# Altium footprint library adafruit.PCBLIB: 643 footprints (part 35 of 41)
Each footprint in its own frame and in the unit in brackets; x right, y up, seen from the top. Pads: shape width x height; smd on the part's side, far side on the other; paste and mask are expansions set on the pad; w line width, h text height; cw(c..) or ccw(c..) is an arc to the next point about the centre after c.
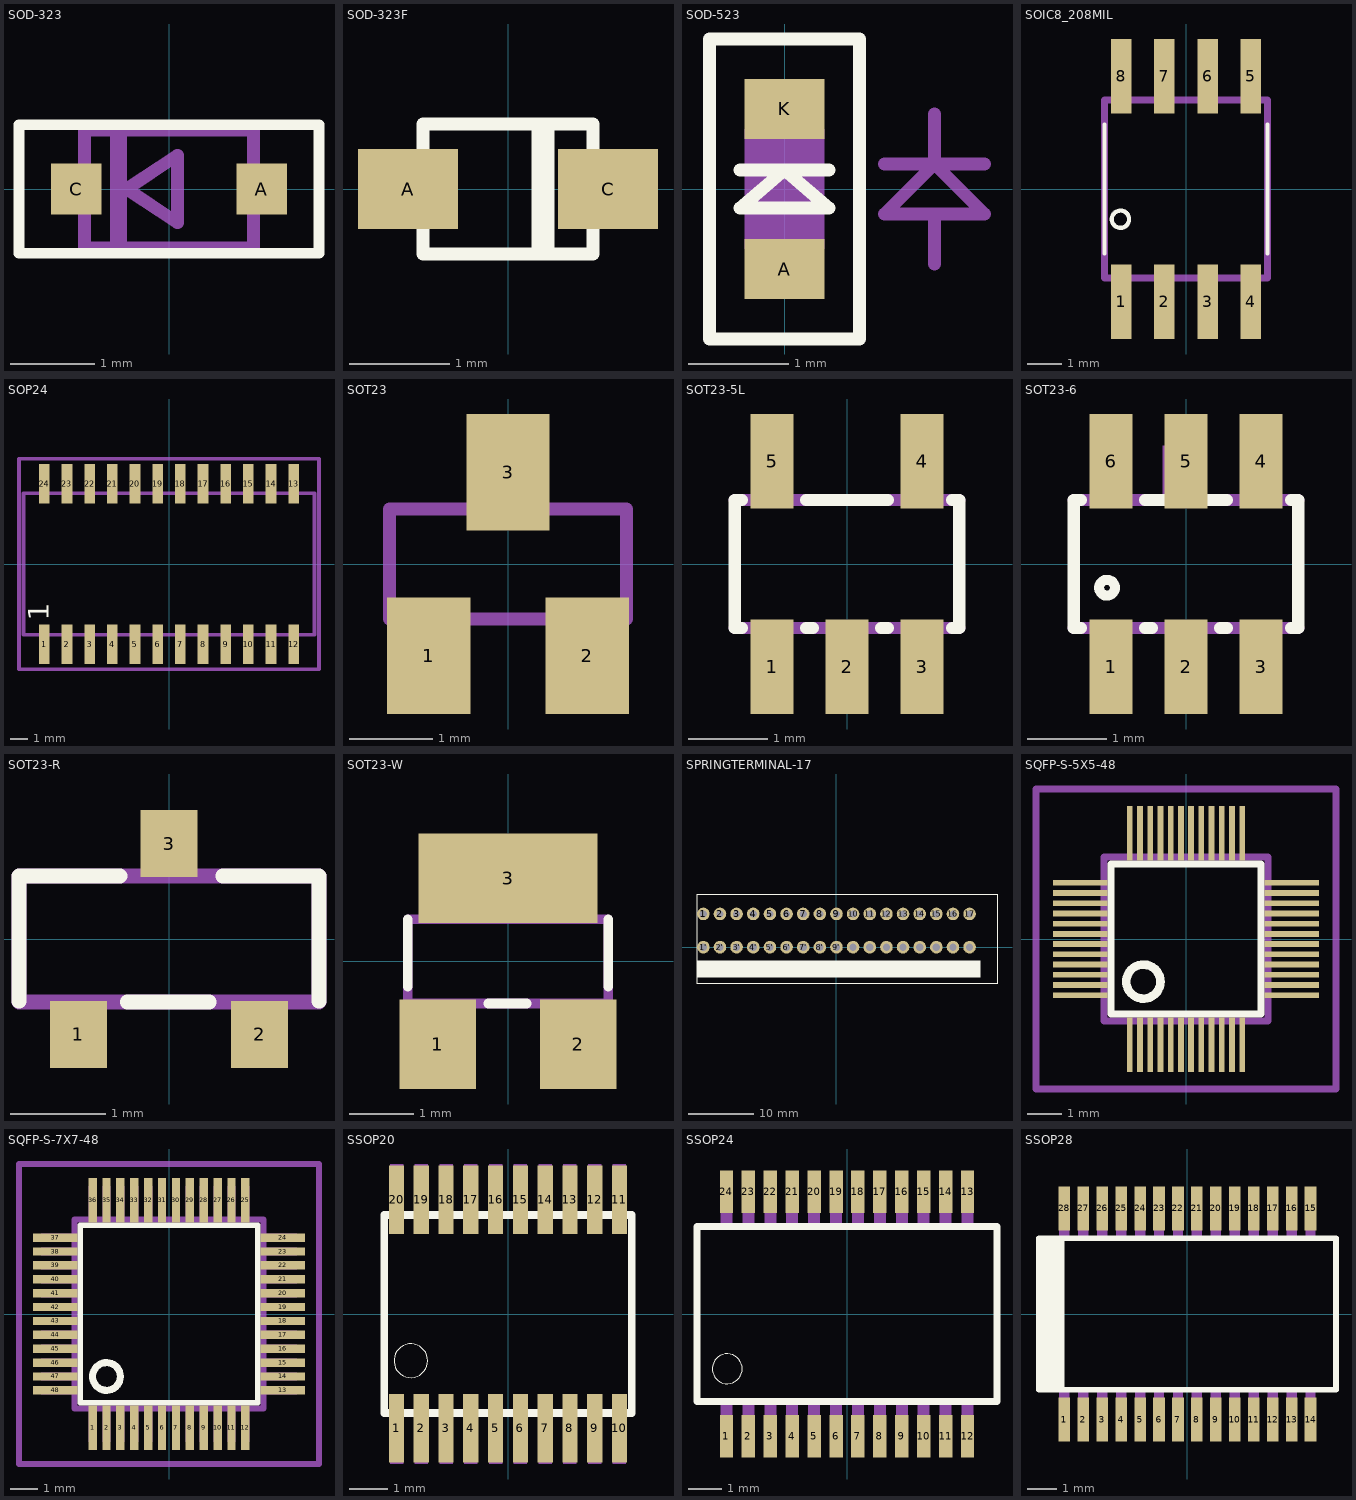
[diagram p34: the footprints below, top view; thin cyan lines are the x and y axes]

## SOD-323 [mil]
pads (2):
  rect 23.62x23.62 smd: A(43.31,0) C(-43.31,0)
Top Overlay:
  lines w5: -70,-30 70,-30 70,30 -70,30 -70,-30
Mechanical 16:
  rectangle: -27.56,-27.56 -19.69,27.56
  lines w6: -39.37,-27.56 39.37,-27.56 39.37,27.56 -39.37,27.56 -39.37,-27.56 ; -19.69,0 3.94,15.75 3.94,-15.75 -19.69,0
  text "41" at 21.93,11.48 h37.2

## SOD-323F [mm]
pads (2):
  rect 1x0.8 smd: A(-1,0) C(1,0)
Top Overlay:
  lines w0.127: 0.3,0.6 0.3,-0.6 0.4,-0.6 0.4,0.6 ; -0.85,-0.65 0.85,-0.65 0.85,0.65 -0.85,0.65 -0.85,-0.65
Mechanical 16:
  lines w0.127: -0.9,-0.2 -1.2,-0.2 -1.2,0.2 -0.9,0.2 ; 0.9,-0.2 1.2,-0.2 1.2,0.2 0.9,0.2

## SOD-523 [mil]
pads (2):
  rect 31.5x23.62 smd: A(0,-31.5) K(0,31.5)
Top Overlay:
  lines w5: -17.5,7.5 17.5,7.5 ; -29.53,-59.06 29.53,-59.06 29.53,59.06 -29.53,59.06 -29.53,-59.06 ; -17.5,-7.5 17.5,-7.5 0,7.5 -17.5,-7.5
Mechanical 16:
  rectangle: -15.75,-23.62 15.75,23.62
  rectangle: -5.91,-31.5 5.91,-23.62
  rectangle: -5.91,23.62 5.91,31.5
  lines w5: 39.37,9.84 59.06,9.84 ; 59.06,-29.53 59.06,-9.84 ; 59.06,29.53 59.06,9.84 ; 78.74,9.84 59.06,9.84 ; 59.06,-9.84 39.37,-9.84 59.06,9.84 ; 59.06,-9.84 78.74,-9.84 59.06,9.84

## SOIC8_208MIL [mil]
pads (8):
  rect 23.62x86.61 smd: 1(-75,-130.51) 2(-25,-130.51) 3(25,-130.51) 4(75,-130.51) 5(75,130.51) 6(25,130.51) 7(-25,130.51) 8(-75,130.51)
Top Overlay:
  circle w5: c-76,-35 r10
  lines w5: -94.49,-74.8 -94.49,74.8 ; 94.49,-74.8 94.49,74.8
Mechanical 16:
  rectangle: -84.65,-150.2 -65.35,-106.89
  rectangle: -34.65,-150.2 -15.35,-106.89
  rectangle: 15.35,-150.2 34.65,-106.89
  rectangle: 65.35,-150.2 84.65,-106.89
  rectangle: 65.35,106.89 84.65,150.2
  rectangle: 15.35,106.89 34.65,150.2
  rectangle: -34.65,106.89 -15.35,150.2
  rectangle: -84.65,106.89 -65.35,150.2
  lines w8: -94.49,-102.95 94.49,-102.95 94.49,102.95 -94.49,102.95 -94.49,-102.95

## SOP24 [mil]
pads (24):
  rect 23.62x86.61 smd: 1(-275,-177.17) 2(-225,-177.17) 3(-175,-177.17) 4(-125,-177.17) 5(-75,-177.17) 6(-25,-177.17) 7(25,-177.17) 8(75,-177.17) 9(125,-177.17) 10(175,-177.17) 11(225,-177.17) 12(275,-177.17) 13(275,177.17) 14(225,177.17) 15(175,177.17) 16(125,177.17) 17(75,177.17) 18(25,177.17) 19(-25,177.17) 20(-75,177.17) 21(-125,177.17) 22(-175,177.17) 23(-225,177.17) 24(-275,177.17)
Top Overlay:
  text "1" at -250,-125 h77.5
Mechanical 16:
  rectangle: -284.84,-212.2 -265.16,-159.84
  rectangle: -234.84,-212.2 -215.16,-159.84
  rectangle: -184.84,-212.2 -165.16,-159.84
  rectangle: -134.84,-212.2 -115.16,-159.84
  rectangle: -84.84,-212.2 -65.16,-159.84
  rectangle: -34.84,-212.2 -15.16,-159.84
  rectangle: 15.16,-212.2 34.84,-159.84
  rectangle: 65.16,-212.2 84.84,-159.84
  rectangle: 115.16,-212.2 134.84,-159.84
  rectangle: 165.16,-212.2 184.84,-159.84
  rectangle: 215.16,-212.2 234.84,-159.84
  rectangle: 265.16,-212.2 284.84,-159.84
  rectangle: 265.16,159.84 284.84,212.2
  rectangle: 215.16,159.84 234.84,212.2
  rectangle: 165.16,159.84 184.84,212.2
  rectangle: 115.16,159.84 134.84,212.2
  rectangle: 65.16,159.84 84.84,212.2
  rectangle: 15.16,159.84 34.84,212.2
  rectangle: -34.84,159.84 -15.16,212.2
  rectangle: -84.84,159.84 -65.16,212.2
  rectangle: -134.84,159.84 -115.16,212.2
  rectangle: -184.84,159.84 -165.16,212.2
  rectangle: -234.84,159.84 -215.16,212.2
  rectangle: -284.84,159.84 -265.16,212.2
  lines w8: -320.67,-155.91 320.67,-155.91 320.67,155.91 -320.67,155.91 -320.67,-155.91
Mechanical 27:
  lines w7.87: -330.71,-232.28 -330.71,232.28 330.71,232.28 330.71,-232.28 -330.71,-232.28

## SOT23 [mm]
pads (3):
  rect 1x1.4 smd: 1(-0.95,-1.1) 2(0.95,-1.1) 3(0,1.1)
Mechanical 16:
  rectangle: -0.229,0.711 0.229,1.295
  rectangle: 0.711,-1.295 1.168,-0.711
  rectangle: -1.168,-1.295 -0.711,-0.711
  lines w0.152: -1.422,-0.66 1.422,-0.66 1.422,0.66 -1.422,0.66 -1.422,-0.66

## SOT23-5L [mil]
pads (5):
  rect 21.65x47.24 smd: 1(-37.4,-51.18) 2(0,-51.18) 3(37.4,-51.18) 4(37.4,51.18) 5(-37.4,51.18)
Top Overlay:
  lines w6: -52.28,-31.89 -55.98,-31.89 -55.98,31.89 -52.28,31.89 ; -20.55,-31.89 -16.85,-31.89 ; -20.55,31.89 20.55,31.89 ; 16.85,-31.89 20.55,-31.89 ; 52.28,-31.89 55.98,-31.89 55.98,31.89 52.28,31.89
Mechanical 16:
  rectangle: -47.24,-59.06 -27.56,-33.46
  rectangle: -9.84,-59.06 9.84,-33.46
  rectangle: 27.56,-59.06 47.24,-33.46
  rectangle: 27.56,33.46 47.24,59.06
  rectangle: -47.24,33.46 -27.56,59.06
  lines w6: -55.98,-31.89 55.98,-31.89 ; -55.98,31.89 55.98,31.89

## SOT23-6 [mil]
pads (6):
  rect 21.65x47.24 smd: 1(-37.4,-51.18) 2(0,-51.18) 3(37.4,-51.18) 4(37.4,51.18) 5(0,51.18) 6(-37.4,51.18)
Top Overlay:
  circle w5: c-39.37,-11.81 r3.94
  lines w6: -52.28,-31.89 -55.98,-31.89 -55.98,31.89 -52.28,31.89 ; -20.55,-31.89 -16.85,-31.89 ; -20.55,31.89 20.55,31.89 ; 16.85,-31.89 20.55,-31.89 ; 52.28,-31.89 55.98,-31.89 55.98,31.89 52.28,31.89
Mechanical 16:
  rectangle: -47.24,-59.06 -27.56,-33.46
  rectangle: -9.84,-59.06 9.84,-33.46
  rectangle: 27.56,-59.06 47.24,-33.46
  rectangle: 27.56,33.46 47.24,59.06
  rectangle: -47.24,33.46 -27.56,59.06
  rectangle: -11.81,33.46 7.87,59.06
  lines w6: -55.98,-31.89 55.98,-31.89 ; -55.98,31.89 55.98,31.89

## SOT23-R [mm]
pads (3):
  rect 0.6x0.7 smd: 1(-0.95,-1) 2(0.95,-1) 3(0,1)
Top Overlay:
  lines w0.152: -1.573,-0.653 -1.573,0.66 -0.514,0.66 ; -0.436,-0.66 0.422,-0.66 ; 0.564,0.66 1.573,0.66 1.573,-0.653
Mechanical 16:
  rectangle: -0.229,0.711 0.229,1.295
  rectangle: 0.711,-1.295 1.168,-0.711
  rectangle: -1.168,-1.295 -0.711,-0.711
  lines w0.152: -1.573,-0.66 1.573,-0.66 1.573,0.66 -1.573,0.66 -1.573,-0.66

## SOT23-W [mil]
pads (3):
  rect 47.24x55.12 smd: 1(-43.31,-51.18) 2(43.31,-51.18)
  rect 110.24x55.12 smd: 3(0,51.18)
Top Overlay:
  lines w6: -61.91,-15.69 -61.91,26 ; -12.18,-26 11.63,-26 ; 61.91,-15.69 61.91,26
Mechanical 16:
  rectangle: -9,28 9,51
  rectangle: 28,-51 46,-28
  rectangle: -46,-51 -28,-28
  lines w6: -61.91,-26 61.91,-26 61.91,26 -61.91,26 -61.91,-26

## SPRINGTERMINAL-17 [mil]
pads (34):
  round 76 hole 43.31: 1(-800,200) 1'(-800,0) 2(-700,200) 2'(-700,0) 3(-600,200) 3'(-600,0) 4(-500,200) 4'(-500,0) 5(-400,200) 5'(-400,0) 6(-300,200) 6'(-300,0) 7(-200,200) 7'(-200,0) 8(-100,200) 8'(-100,0) 9(0,200) 9'(0,0) 10(100,200) 10'(100,0) 11(200,200) 11'(200,0) 12(300,200) 12'(300,0) 13(400,200) 13'(400,0) 14(500,200) 14'(500,0) 15(600,200) 15'(600,0) 16(700,200) 16'(700,0) 17(800,200) 17'(800,0)
Top Overlay:
  rectangle: -835.43,-181.1 864.57,-81.1
  lines w5: -835.43,-220.47 964.57,-220.47 964.57,318.9 -835.43,318.9 -835.43,-220.47

## SQFP-S-5X5-48 [mm]
pads (48):
  rect 0.17x1.6 smd: 1(-1.65,-3.1) 2(-1.35,-3.1) 3(-1.05,-3.1) 4(-0.75,-3.1) 5(-0.45,-3.1) 6(-0.15,-3.1) 7(0.15,-3.1) 8(0.45,-3.1) 9(0.75,-3.1) 10(1.05,-3.1) 11(1.35,-3.1) 12(1.65,-3.1) 25(1.65,3.1) 26(1.35,3.1) 27(1.05,3.1) 28(0.75,3.1) 29(0.45,3.1) 30(0.15,3.1) 31(-0.15,3.1) 32(-0.45,3.1) 33(-0.75,3.1) 34(-1.05,3.1) 35(-1.35,3.1) 36(-1.65,3.1)
  rect 1.6x0.17 smd: 13(3.1,-1.65) 14(3.1,-1.35) 15(3.1,-1.05) 16(3.1,-0.75) 17(3.1,-0.45) 18(3.1,-0.15) 19(3.1,0.15) 20(3.1,0.45) 21(3.1,0.75) 22(3.1,1.05) 23(3.1,1.35) 24(3.1,1.65) 37(-3.1,1.65) 38(-3.1,1.35) 39(-3.1,1.05) 40(-3.1,0.75) 41(-3.1,0.45) 42(-3.1,0.15) 43(-3.1,-0.15) 44(-3.1,-0.45) 45(-3.1,-0.75) 46(-3.1,-1.05) 47(-3.1,-1.35) 48(-3.1,-1.65)
Top Overlay:
  circle w0.254: c-1.25,-1.25 r0.5
  lines w0.203: -2.2,-2.2 2.2,-2.2 2.2,2.2 -2.2,2.2 -2.2,-2.2
Mechanical 16:
  rectangle: -1.72,-3.6 -1.58,-2.45
  rectangle: -1.42,-3.6 -1.28,-2.45
  rectangle: -1.12,-3.6 -0.98,-2.45
  rectangle: -0.82,-3.6 -0.68,-2.45
  rectangle: -0.52,-3.6 -0.38,-2.45
  rectangle: -0.22,-3.6 -0.08,-2.45
  rectangle: 0.08,-3.6 0.22,-2.45
  rectangle: 0.38,-3.6 0.52,-2.45
  rectangle: 0.68,-3.6 0.82,-2.45
  rectangle: 0.98,-3.6 1.12,-2.45
  rectangle: 1.28,-3.6 1.42,-2.45
  rectangle: 1.58,-3.6 1.72,-2.45
  rectangle: 2.45,-1.72 3.6,-1.58
  rectangle: 2.45,-1.42 3.6,-1.28
  rectangle: 2.45,-1.12 3.6,-0.98
  rectangle: 2.45,-0.82 3.6,-0.68
  rectangle: 2.45,-0.52 3.6,-0.38
  rectangle: 2.45,-0.22 3.6,-0.08
  rectangle: 2.45,0.08 3.6,0.22
  rectangle: 2.45,0.38 3.6,0.52
  rectangle: 2.45,0.68 3.6,0.82
  rectangle: 2.45,0.98 3.6,1.12
  rectangle: 2.45,1.28 3.6,1.42
  rectangle: 2.45,1.58 3.6,1.72
  rectangle: 1.58,2.45 1.72,3.6
  rectangle: 1.28,2.45 1.42,3.6
  rectangle: 0.98,2.45 1.12,3.6
  rectangle: 0.68,2.45 0.82,3.6
  rectangle: 0.38,2.45 0.52,3.6
  rectangle: 0.08,2.45 0.22,3.6
  rectangle: -0.22,2.45 -0.08,3.6
  rectangle: -0.52,2.45 -0.38,3.6
  rectangle: -0.82,2.45 -0.68,3.6
  rectangle: -1.12,2.45 -0.98,3.6
  rectangle: -1.42,2.45 -1.28,3.6
  rectangle: -1.72,2.45 -1.58,3.6
  rectangle: -3.6,1.58 -2.45,1.72
  rectangle: -3.6,1.28 -2.45,1.42
  rectangle: -3.6,0.98 -2.45,1.12
  rectangle: -3.6,0.68 -2.45,0.82
  rectangle: -3.6,0.38 -2.45,0.52
  rectangle: -3.6,0.08 -2.45,0.22
  rectangle: -3.6,-0.22 -2.45,-0.08
  rectangle: -3.6,-0.52 -2.45,-0.38
  rectangle: -3.6,-0.82 -2.45,-0.68
  rectangle: -3.6,-1.12 -2.45,-0.98
  rectangle: -3.6,-1.42 -2.45,-1.28
  rectangle: -3.6,-1.72 -2.45,-1.58
  lines w0.203: -2.4,-2.4 2.4,-2.4 2.4,2.4 -2.4,2.4 -2.4,-2.4
Mechanical 27:
  lines w0.2: -4.4,-4.4 -4.4,4.4 4.4,4.4 4.4,-4.4 -4.4,-4.4

## SQFP-S-7X7-48 [mil]
pads (48):
  rect 11.81x62.99 smd: 1(-108.27,-161.42) 2(-88.58,-161.42) 3(-68.9,-161.42) 4(-49.21,-161.42) 5(-29.53,-161.42) 6(-9.84,-161.42) 7(9.84,-161.42) 8(29.53,-161.42) 9(49.21,-161.42) 10(68.9,-161.42) 11(88.58,-161.42) 12(108.27,-161.42) 25(108.27,161.42) 26(88.58,161.42) 27(68.9,161.42) 28(49.21,161.42) 29(29.53,161.42) 30(9.84,161.42) 31(-9.84,161.42) 32(-29.53,161.42) 33(-49.21,161.42) 34(-68.9,161.42) 35(-88.58,161.42) 36(-108.27,161.42)
  rect 62.99x11.81 smd: 13(161.42,-108.27) 14(161.42,-88.58) 15(161.42,-68.9) 16(161.42,-49.21) 17(161.42,-29.53) 18(161.42,-9.84) 19(161.42,9.84) 20(161.42,29.53) 21(161.42,49.21) 22(161.42,68.9) 23(161.42,88.58) 24(161.42,108.27) 37(-161.42,108.27) 38(-161.42,88.58) 39(-161.42,68.9) 40(-161.42,49.21) 41(-161.42,29.53) 42(-161.42,9.84) 43(-161.42,-9.84) 44(-161.42,-29.53) 45(-161.42,-49.21) 46(-161.42,-68.9) 47(-161.42,-88.58) 48(-161.42,-108.27)
Top Overlay:
  circle w10: c-88.58,-88.58 r19.68
  lines w8: -125.98,-125.98 125.98,-125.98 125.98,125.98 -125.98,125.98 -125.98,-125.98
Mechanical 16:
  rectangle: -114.17,-181.1 -102.36,-135.83
  rectangle: -94.49,-181.1 -82.68,-135.83
  rectangle: -74.8,-181.1 -62.99,-135.83
  rectangle: -55.12,-181.1 -43.31,-135.83
  rectangle: -35.43,-181.1 -23.62,-135.83
  rectangle: -15.75,-181.1 -3.94,-135.83
  rectangle: 3.94,-181.1 15.75,-135.83
  rectangle: 23.62,-181.1 35.43,-135.83
  rectangle: 43.31,-181.1 55.12,-135.83
  rectangle: 62.99,-181.1 74.8,-135.83
  rectangle: 82.68,-181.1 94.49,-135.83
  rectangle: 102.36,-181.1 114.17,-135.83
  rectangle: 135.83,-114.17 181.1,-102.36
  rectangle: 135.83,-94.49 181.1,-82.68
  rectangle: 135.83,-74.8 181.1,-62.99
  rectangle: 135.83,-55.12 181.1,-43.31
  rectangle: 135.83,-35.43 181.1,-23.62
  rectangle: 135.83,-15.75 181.1,-3.94
  rectangle: 135.83,3.94 181.1,15.75
  rectangle: 135.83,23.62 181.1,35.43
  rectangle: 135.83,43.31 181.1,55.12
  rectangle: 135.83,62.99 181.1,74.8
  rectangle: 135.83,82.68 181.1,94.49
  rectangle: 135.83,102.36 181.1,114.17
  rectangle: 102.36,135.83 114.17,181.1
  rectangle: 82.68,135.83 94.49,181.1
  rectangle: 62.99,135.83 74.8,181.1
  rectangle: 43.31,135.83 55.12,181.1
  rectangle: 23.62,135.83 35.43,181.1
  rectangle: 3.94,135.83 15.75,181.1
  rectangle: -15.75,135.83 -3.94,181.1
  rectangle: -35.43,135.83 -23.62,181.1
  rectangle: -55.12,135.83 -43.31,181.1
  rectangle: -74.8,135.83 -62.99,181.1
  rectangle: -94.49,135.83 -82.68,181.1
  rectangle: -114.17,135.83 -102.36,181.1
  rectangle: -181.1,102.36 -135.83,114.17
  rectangle: -181.1,82.68 -135.83,94.49
  rectangle: -181.1,62.99 -135.83,74.8
  rectangle: -181.1,43.31 -135.83,55.12
  rectangle: -181.1,23.62 -135.83,35.43
  rectangle: -181.1,3.94 -135.83,15.75
  rectangle: -181.1,-15.75 -135.83,-3.94
  rectangle: -181.1,-35.43 -135.83,-23.62
  rectangle: -181.1,-55.12 -135.83,-43.31
  rectangle: -181.1,-74.8 -135.83,-62.99
  rectangle: -181.1,-94.49 -135.83,-82.68
  rectangle: -181.1,-114.17 -135.83,-102.36
  lines w8: -133.86,-133.86 133.86,-133.86 133.86,133.86 -133.86,133.86 -133.86,-133.86
Mechanical 27:
  lines w7.87: -212.6,-212.6 -212.6,212.6 212.6,212.6 212.6,-212.6 -212.6,-212.6

## SSOP20 [mm]
pads (20):
  rect 0.4x1.8 smd: 1(-2.925,-3) 2(-2.275,-3) 3(-1.625,-3) 4(-0.975,-3) 5(-0.325,-3) 6(0.325,-3) 7(0.975,-3) 8(1.625,-3) 9(2.275,-3) 10(2.925,-3) 11(2.925,3) 12(2.275,3) 13(1.625,3) 14(0.975,3) 15(0.325,3) 16(-0.325,3) 17(-0.975,3) 18(-1.625,3) 19(-2.275,3) 20(-2.925,3)
Top Overlay:
  circle w0: c-2.55,-1.225 r0.442
  lines w0.203: -3.25,-2.6 3.25,-2.6 3.25,2.6 -3.25,2.6 -3.25,-2.6
Mechanical 16:
  rectangle: -3.103,-3.937 -2.747,-2.642
  rectangle: -2.453,-3.937 -2.097,-2.642
  rectangle: -1.803,-3.937 -1.447,-2.642
  rectangle: -1.153,-3.937 -0.797,-2.642
  rectangle: -0.503,-3.937 -0.147,-2.642
  rectangle: 0.147,-3.937 0.503,-2.642
  rectangle: 0.797,-3.937 1.153,-2.642
  rectangle: 1.447,-3.937 1.803,-2.642
  rectangle: 2.097,-3.937 2.453,-2.642
  rectangle: 2.747,-3.937 3.103,-2.642
  rectangle: 2.747,2.642 3.103,3.937
  rectangle: 2.097,2.642 2.453,3.937
  rectangle: 1.447,2.642 1.803,3.937
  rectangle: 0.797,2.642 1.153,3.937
  rectangle: 0.147,2.642 0.503,3.937
  rectangle: -0.503,2.642 -0.147,3.937
  rectangle: -1.153,2.642 -0.797,3.937
  rectangle: -1.803,2.642 -1.447,3.937
  rectangle: -2.453,2.642 -2.097,3.937
  rectangle: -3.103,2.642 -2.747,3.937

## SSOP24 [mil]
pads (24):
  rect 15.75x49.21 smd: 1(-140.75,-142.72) 2(-115.16,-142.72) 3(-89.57,-142.72) 4(-63.98,-142.72) 5(-38.39,-142.72) 6(-12.8,-142.72) 7(12.8,-142.72) 8(38.39,-142.72) 9(63.98,-142.72) 10(89.57,-142.72) 11(115.16,-142.72) 12(140.75,-142.72) 13(140.75,142.72) 14(115.16,142.72) 15(89.57,142.72) 16(63.98,142.72) 17(38.39,142.72) 18(12.8,142.72) 19(-12.8,142.72) 20(-38.39,142.72) 21(-63.98,142.72) 22(-89.57,142.72) 23(-115.16,142.72) 24(-140.75,142.72)
Top Overlay:
  circle w0: c-139.76,-63.98 r17.41
  lines w8: -175.2,-102.36 175.2,-102.36 175.2,102.36 -175.2,102.36 -175.2,-102.36
Mechanical 16:
  rectangle: -147.75,-155 -133.75,-104
  rectangle: -122.16,-155 -108.16,-104
  rectangle: -96.57,-155 -82.57,-104
  rectangle: -70.98,-155 -56.98,-104
  rectangle: -45.39,-155 -31.39,-104
  rectangle: -19.8,-155 -5.8,-104
  rectangle: 5.79,-155 19.79,-104
  rectangle: 31.39,-155 45.39,-104
  rectangle: 56.98,-155 70.98,-104
  rectangle: 82.57,-155 96.57,-104
  rectangle: 108.16,-155 122.16,-104
  rectangle: 133.75,-155 147.75,-104
  rectangle: 133.75,104 147.75,155
  rectangle: 108.16,104 122.16,155
  rectangle: 82.57,104 96.57,155
  rectangle: 56.98,104 70.98,155
  rectangle: 31.39,104 45.39,155
  rectangle: 5.79,104 19.79,155
  rectangle: -19.8,104 -5.8,155
  rectangle: -45.39,104 -31.39,155
  rectangle: -70.98,104 -56.98,155
  rectangle: -96.57,104 -82.57,155
  rectangle: -122.16,104 -108.16,155
  rectangle: -147.75,104 -133.75,155

## SSOP28 [mil]
pads (28):
  rect 15.75x59.06 smd: 1(-166.34,-142.72) 2(-140.75,-142.72) 3(-115.16,-142.72) 4(-89.57,-142.72) 5(-63.98,-142.72) 6(-38.39,-142.72) 7(-12.8,-142.72) 8(12.8,-142.72) 9(38.39,-142.72) 10(63.98,-142.72) 11(89.57,-142.72) 12(115.16,-142.72) 13(140.75,-142.72) 14(166.34,-142.72) 15(166.34,142.72) 16(140.75,142.72) 17(115.16,142.72) 18(89.57,142.72) 19(63.98,142.72) 20(38.39,142.72) 21(12.8,142.72) 22(-12.8,142.72) 23(-38.39,142.72) 24(-63.98,142.72) 25(-89.57,142.72) 26(-115.16,142.72) 27(-140.75,142.72) 28(-166.34,142.72)
Top Overlay:
  rectangle: -204.72,-102.36 -166.34,102.36
  lines w8: -200.79,-102.36 200.79,-102.36 200.79,102.36 -200.79,102.36
Mechanical 16:
  rectangle: -173.34,-155 -159.34,-104
  rectangle: -147.75,-155 -133.75,-104
  rectangle: -122.16,-155 -108.16,-104
  rectangle: -96.57,-155 -82.57,-104
  rectangle: -70.98,-155 -56.98,-104
  rectangle: -45.39,-155 -31.39,-104
  rectangle: -19.8,-155 -5.8,-104
  rectangle: 5.8,-155 19.8,-104
  rectangle: 31.39,-155 45.39,-104
  rectangle: 56.98,-155 70.98,-104
  rectangle: 82.57,-155 96.57,-104
  rectangle: 108.16,-155 122.16,-104
  rectangle: 133.75,-155 147.75,-104
  rectangle: 159.34,-155 173.34,-104
  rectangle: 159.34,104 173.34,155
  rectangle: 133.75,104 147.75,155
  rectangle: 108.16,104 122.16,155
  rectangle: 82.57,104 96.57,155
  rectangle: 56.98,104 70.98,155
  rectangle: 31.39,104 45.39,155
  rectangle: 5.8,104 19.8,155
  rectangle: -19.8,104 -5.8,155
  rectangle: -45.39,104 -31.39,155
  rectangle: -70.98,104 -56.98,155
  rectangle: -96.57,104 -82.57,155
  rectangle: -122.16,104 -108.16,155
  rectangle: -147.75,104 -133.75,155
  rectangle: -173.34,104 -159.34,155